# Altium schematic symbol library steve.SchLib: 12 symbols
Pins are listed as number, name and electrical type; pins without a type are passive.

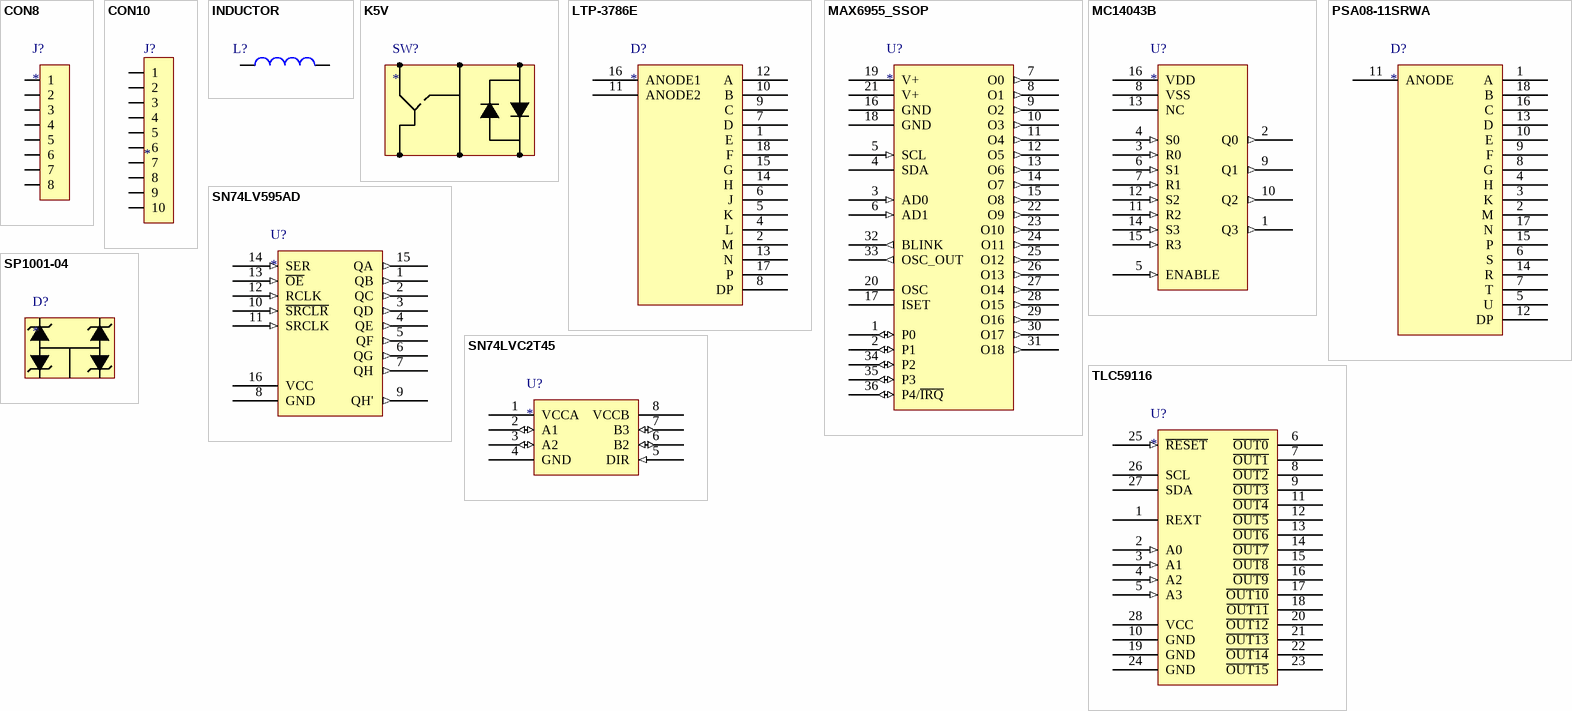
[diagram p0: symbols CON8 to TLC59116]

## CON8
designator J?
Connector
footprint LEMO_1B_308
pins: 1, 2, 3, 4, 5, 6, 7, 8

## CON10
designator J?
Connector
footprint LEMO_2B_310
pins: 1, 2, 3, 4, 5, 6, 7, 8, 9, 10

## INDUCTOR
designator L?  (value not drawn)
INDUCTOR
footprint WE-TPC-744042331 (WE-TPC SMD Shielded Tiny Power Inductor (744042331))
footprint WE-TPC-744065221 (WE-TPC SMD Shielded Tiny Power Inductor (744065221))
pins: 1, 2

## K5V
designator SW?
K5V Illuminated Tactile Switch
footprint K5V_PM (K5V Illuminated Tactile Switch - Panel Mount)
pins: 1, 2, 3, 4, 5, 6

## LTP-3786E
designator D?
13.8mm dual digit 14-segment single digit alphanumeric display
footprint LTP-3786E
pins: 1 E, 2 M, 4 L, 5 K, 6 J, 7 D, 8 DP, 9 C, 10 B, 11 ANODE2, 12 A, 13 N, 14 H, 15 G, 16 ANODE1, 17 P, 18 F

## MAX6955_SSOP
designator U?
2-Wire Interfaced, 2.7V to 5.5V LED Display Driver
footprint SOP127P600-8N-36 (Maxim 36L SSOP, 0.80mm pitch (for MAX6955))
pins: 1 P0 (io), 2 P1 (io), 3 AD0 (in), 4 SDA (oc), 5 SCL (in), 6 AD1 (in), 7 O0 (out), 8 O1 (out), 9 O2 (out), 10 O3 (out), 11 O4 (out), 12 O5 (out), 13 O6 (out), 14 O7 (out), 15 O8 (out), 16 GND (power), 17 ISET, 18 GND (power), 19 V+ (power), 20 OSC, 21 V+ (power), 22 O9 (out), 23 O10 (out), 24 O11 (out), 25 O12 (out), 26 O13 (out), 27 O14 (out), 28 O15 (out), 29 O16 (out), 30 O17 (out), 31 O18 (out), 32 BLINK (out), 33 OSC_OUT (out), 34 P2 (io), 35 P3 (io), 36 P4/~{IRQ} (io)

## MC14043B
designator U?
Quad CMOS R-S Latches; Part Number: MC14043BDR2G
footprint SOIC127P600X175-16N (SOIC, 16-Leads, Body 10.0x4.0mm (max), Pitch 1.27mm, IPC Medium Density)
pins: 1 Q3 (out), 2 Q0 (out), 3 R0 (in), 4 S0 (in), 5 ENABLE (in), 6 S1 (in), 7 R1 (in), 8 VSS (power), 9 Q1 (out), 10 Q2 (out), 11 R2 (in), 12 S2 (in), 13 NC, 14 S3 (in), 15 R3 (in), 16 VDD (power)

## PSA08-11SRWA
designator D?
0.8 inch character height 16-segment single digit LED display
footprint PSA08-11SRWA
pins: 1 A, 2 M, 3 K, 4 H, 5 U, 6 S, 7 T, 8 G, 9 F, 10 E, 11 ANODE, 12 DP, 13 D, 14 R, 15 P, 16 C, 17 N, 18 B

## SN74LV595AD
designator U?
8-Bit Shift Registers with 3-State Output Registers
footprint SOIC127P600X175-16N (SOIC, 16-Leads, Body 10.0x4.0mm (max), Pitch 1.27mm, IPC Medium Density)
pins: 1 QB (out), 2 QC (out), 3 QD (out), 4 QE (out), 5 QF (out), 6 QG (out), 7 QH (out), 8 GND (power), 9 QH' (out), 10 ~{SRCLR} (in), 11 SRCLK (in), 12 RCLK (in), 13 ~{OE} (in), 14 SER (in), 15 QA (out), 16 VCC (power)

## SN74LVC2T45
designator U?
Dual-bit  Dual-supply Bus Transceiver; Part Number: SN74LVC2T45DCT
footprint TSOP65P400X130-8N (TSOP, 8-Leads, Body 3.2x2.9mm (max), Pitch 0.65mm, IPC Medium Density (TI - DCT))
pins: 1 VCCA (power), 2 A1 (io), 3 A2 (io), 4 GND (power), 5 DIR (in), 6 B2 (io), 7 B3 (io), 8 VCCB (power)

## SP1001-04
designator D?
8pF 15kV Unidirectional TVS Array 0.5uA@5.5V
footprint SC70-5 (Equiv. to SC88-A, SOT-353)
pins: 1, 2, 3, 4, 5

## TLC59116
designator U?
16-Channel I2C Constant-Current LED Sink Driver
footprint SOP127P600-8N (Footprint for TLC59116)
pins: 1 REXT, 2 A0 (in), 3 A1 (in), 4 A2 (in), 5 A3 (in), 6 ~{OUT0} (oc), 7 ~{OUT1} (oc), 8 ~{OUT2} (oc), 9 ~{OUT3} (oc), 10 GND (power), 11 ~{OUT4} (oc), 12 ~{OUT5} (oc), 13 ~{OUT6} (oc), 14 ~{OUT7} (oc), 15 ~{OUT8} (oc), 16 ~{OUT9} (oc), 17 ~{OUT10} (oc), 18 ~{OUT11} (oc), 19 GND (power), 20 ~{OUT12} (oc), 21 ~{OUT13} (oc), 22 ~{OUT14} (oc), 23 ~{OUT15} (oc), 24 GND (power), 25 ~{RESET} (in), 26 SCL (oc), 27 SDA (oc), 28 VCC (power)